# Altium schematic symbol library SCH_Active.SchLib: 26 symbols
Pins are listed as number, name and electrical type; pins without a type are passive.

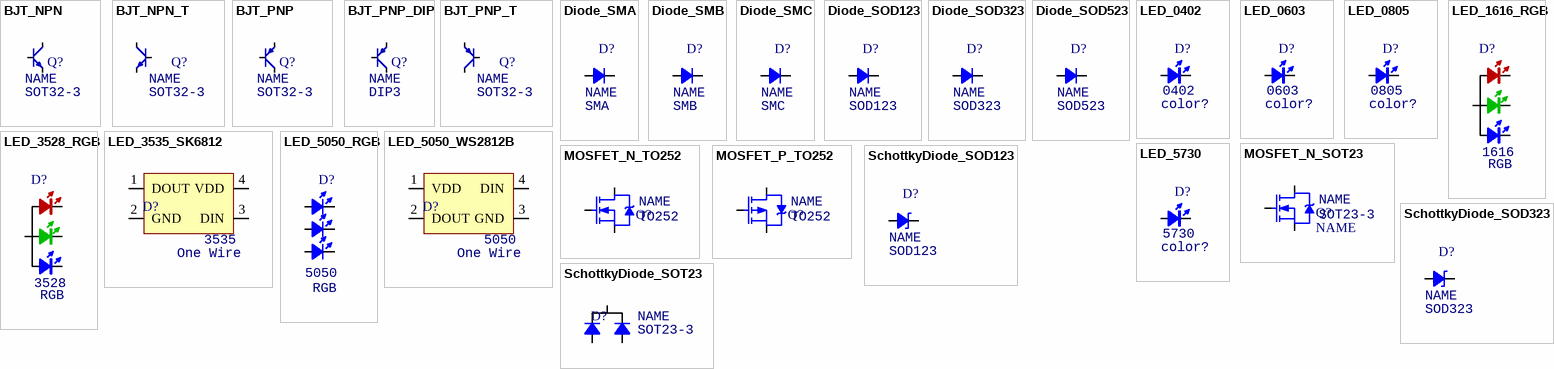
[diagram p0: symbols BJT_NPN to SchottkyDiode_SOT23]

## BJT_NPN
designator Q?, comment Type: SOT32-3  (hidden comment: NAME)
Transistor; Note: NPN; Manufacturer: *; Specification: *; Value: NAME
footprint SOT23-3
pins: 1 B, 2 E, 3 C

## BJT_NPN_T
designator Q?, comment Type: SOT32-3  (hidden comment: NAME)
Transistor; Note: NPN; Manufacturer: *; Specification: *; Value: NAME
footprint SOT23-3
pins: 1 B, 2 E, 3 C

## BJT_PNP
designator Q?, comment Type: SOT32-3  (hidden comment: NAME)
Transistor; Note: PNP; Manufacturer: *; Specification: *; Value: NAME
footprint SOT23-3
pins: 1 B, 2 E, 3 C

## BJT_PNP_DIP
designator Q?, comment Type: DIP3  (hidden comment: NAME)
Transistor; Note: PNP; Manufacturer: *; Specification: *; Value: NAME
footprint TO-92_HDR
pins: 1 E, 2 B, 3 C

## BJT_PNP_T
designator Q?, comment Type: SOT32-3  (hidden comment: NAME)
Transistor; Note: PNP; Manufacturer: *; Specification: *; Value: NAME
footprint SOT23-3
pins: 1 B, 2 E, 3 C

## Diode_SMA
designator D?, comment Type: SMA  (hidden comment: NAME)
Diode; Manufacturer: *; Specification: *; Note: *; Value: NAME
footprint DO-214AC (SMA)
pins: 1 A, 2 K

## Diode_SMB
designator D?, comment Type: SMB  (hidden comment: NAME)
Diode; Manufacturer: *; Specification: *; Note: *; Value: NAME
footprint DO-214AA (SMB)
pins: 1 A, 2 K

## Diode_SMC
designator D?, comment Type: SMC  (hidden comment: NAME)
Diode; Manufacturer: *; Specification: *; Note: *; Value: NAME
footprint DO-214AB (SMC)
pins: 1 A, 2 K

## Diode_SOD123
designator D?, comment Type: SOD123  (hidden comment: NAME)
Diode; Manufacturer: *; Specification: *; Note: *; Value: NAME
footprint SOD-123
pins: 1 A, 2 K

## Diode_SOD323
designator D?, comment Type: SOD323  (hidden comment: NAME)
Diode; Manufacturer: *; Specification: *; Note: *; Value: NAME
footprint SOD-323
pins: 1 A, 2 K

## Diode_SOD523
designator D?, comment Type: SOD523  (hidden comment: NAME)
Diode; Manufacturer: *; Specification: *; Note: *; Value: NAME
footprint SOD-523
pins: 1 A, 2 K

## LED_0402
designator D?, comment value color?  Type: 0402  (hidden comment: D0402)
LED; Manufacturer: *; Specification: *; Note: *
footprint LED_0402_RED
footprint LED_0402_BLUE
footprint LED_0402_ORANGE
footprint LED_0402_YELLOW
footprint LED_0402_GREEN
pins: 1 A, 2 K

## LED_0603
designator D?, comment value color?  Type: 0603  (hidden comment: D0603)
LED; Manufacturer: *; Specification: *; Note: *
footprint LED_0603_GREEN
footprint LED_0603_BLUE
footprint LED_0603_RED
footprint LED_0603_ORANGE
footprint LED_0603_YELLOW
pins: 1 A, 2 K

## LED_0805
designator D?, comment value color?  Type: 0805  (hidden comment: D0805)
LED; Manufacturer: *; Specification: *; Note: *
footprint LED_0805_GREEN
footprint LED_0805_BLUE
footprint LED_0805_RED
footprint LED_0805_ORANGE
footprint LED_0805_YELLOW
pins: 1 A, 2 K

## LED_1616_RGB
designator D?, comment value RGB  Type: 1616  (hidden comment: D1616)
LED; Manufacturer: *; Specification: *; Note: *
footprint LED_1616_RGB
pins: 1 R, 2 G, 3 B, 4 A

## LED_3528_RGB
designator D?, comment value RGB  Type: 3528  (hidden comment: D3528)
LED; Manufacturer: *; Specification: *; Note: *
footprint LED_3528_RGB
pins: 1 R, 2 G, 3 B, 4 A

## LED_3535_SK6812
designator D?, comment value One Wire  Type: 3535  (hidden comment: D3535)
One Wire LED; Manufacturer: *; Specification: *; Note: *
footprint LED_3535_4P
pins: 1 DOUT, 2 GND, 3 DIN, 4 VDD

## LED_5050_RGB
designator D?, comment value RGB  Type: 5050  (hidden comment: D5050)
LED; Manufacturer: *; Specification: *; Note: *
footprint LED_5050_6P
pins: 1 K, 2 K, 3 K, 4 A, 5 A, 6 A

## LED_5050_WS2812B
designator D?, comment value One Wire  Type: 5050  (hidden comment: D5050)
One Wire LED; Manufacturer: *; Specification: *; Note: *
footprint LED_5050_WS2812B
pins: 1 VDD, 2 DOUT, 3 GND, 4 DIN

## LED_5730
designator D?, comment value color?  Type: 5730  (hidden comment: D5730)
LED; Manufacturer: *; Specification: *; Note: *
footprint LED_5730_WHITE
pins: 1 A, 2 K

## MOSFET_N_SOT23
designator Q?, comment NAME  Type: SOT23-3
MOSFET; Note: NMOS; Manufacturer: *; Specification: *; Value: NAME
footprint SOT23-3
pins: 1 G, 2 S, 3 D

## MOSFET_N_TO252
designator Q?, comment Type: TO252  (hidden comment: NAME)
MOSFET; Note: NMOS; Manufacturer: *; Specification: *; Value: NAME
footprint TO-252AA
pins: 1 G, 3 S, 4 D

## MOSFET_P_TO252
designator Q?, comment Type: TO252  (hidden comment: NAME)
MOSFET; Note: PMOS; Manufacturer: *; Specification: *; Value: NAME
footprint TO-252AA
pins: 1 G, 3 S, 4 D

## SchottkyDiode_SOD123
designator D?, comment Type: SOD123  (hidden comment: NAME)
Schottky Diode; Manufacturer: *; Specification: *; Note: *; Value: NAME
footprint SOD-123
pins: 1 A, 2 K

## SchottkyDiode_SOD323
designator D?, comment Type: SOD323  (hidden comment: NAME)
Schottky Diode; Manufacturer: *; Specification: *; Note: *; Value: NAME
footprint SOD-323
pins: 1 A, 2 K

## SchottkyDiode_SOT23
designator D?, comment Type: SOT23-3  (hidden comment: NAME)
Schottky Diode; Manufacturer: *; Specification: *; Note: *; Value: NAME
footprint SOT23-3
pins: 1 A, 2 A, 3 K